# EAGLE library part G6AU-434P (library freebus_relay)
RELAY 4 x switch, single coil latching, 0.3 A/125 V AC, 1 A/30 V DC, Omron
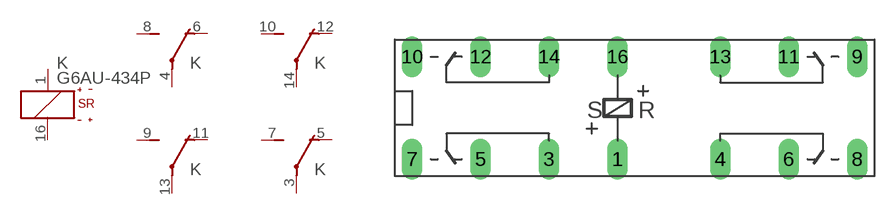
[diagram p36: symbol with the pads of G6AU-434P; footprint G6AU-434P]

Designator prefix K; gates -RS=K+-S-+R -1=U -2=U -3=U -4=U

## G6AU-434P  [G6AU-434P]
1  -RS:+  pas
3  -4:P  pas
4  -1:P  pas
5  -4:O  pas
6  -1:O  pas
7  -4:S  pas
8  -1:S  pas
9  -2:S  pas
10  -3:S  pas
11  -2:O  pas
12  -3:O  pas
13  -2:P  pas
14  -3:P  pas
16  -RS:-  pas

## Footprint G6AU-434P (pad centres in mm)
RELAY 4 x switch, single coil latching, 0.3 A/125 V AC, 1 A/30 V DC, Omron
drill 1.016 long: 1 -1.27,-3.81; 3 -6.35,-3.81; 4 6.35,-3.81; 5 -11.43,-3.81; 6 11.43,-3.81; 7 -16.51,-3.81; 8 16.51,-3.81; 9 16.51,3.81; 10 -16.51,3.81; 11 11.43,3.81; 12 -11.43,3.81; 13 6.35,3.81; 14 -6.35,3.81; 16 -1.27,3.81